# EAGLE library part AAT1217 (library BaseApp)
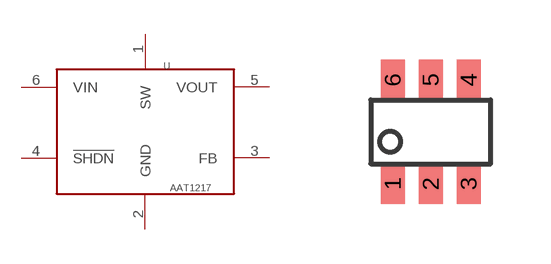
[diagram p124: symbol with the pads of TSOT23-6; footprint TSOT23-6]

Designator prefix -

## AAT1217  [TSOT23-6]
1  SW
2  GND
3  FB
4  !SHDN
5  VOUT
6  VIN

## Footprint TSOT23-6 (pad centres in mm)
smd 0.6 x 1: 1 -0.95,-1.3; 2 0,-1.3; 3 0.95,-1.3; 4 0.95,1.3; 5 0,1.3; 6 -0.95,1.3